# Altium schematic symbol library A000005.SchLib: 1 symbol
Pins are listed as number, name and electrical type; pins without a type are passive.

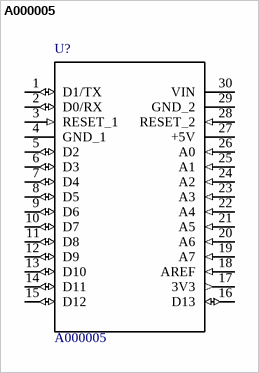
[diagram p0: symbol A000005]

## A000005
designator U?
MICRO, ARDUINO NANO 3.0, MINI-B USB, ATmega328, 0.1DIP, ICSP HDR; Package: None; Digi-Key_Part_Number: 1050-1001-ND; MP: A000005; Digi-Key_Purchase_URL: https://www.digikey.lk/product-detail/en/arduino/A000005/1050-1001-ND/2638989?utm_source=snapeda&utm_medium=aggregator&utm_campaign=symbol; MF: Arduino; SnapEDA_Link: https://www.snapeda.com/parts/A000005/Arduino/view-part/?ref=snap; Value: *
footprint *ARDUINO_A000005
pins: 1 D1/TX (io), 2 D0/RX (io), 3 RESET_1 (in), 4 GND_1 (power), 5 D2 (io), 6 D3 (io), 7 D4 (io), 8 D5 (io), 9 D6 (io), 10 D7 (io), 11 D8 (io), 12 D9 (io), 13 D10 (io), 14 D11 (io), 15 D12 (io), 16 D13 (io), 17 3V3 (out), 18 AREF (in), 19 A7 (in), 20 A6 (in), 21 A5 (in), 22 A4 (in), 23 A3 (in), 24 A2 (in), 25 A1 (in), 26 A0 (in), 27 +5V (power), 28 RESET_2 (in), 29 GND_2 (power), 30 VIN (power)